# Altium schematic symbol library ISFFM.Schlib: 1 symbol
Pins are listed as number, name and electrical type; pins without a type are passive.

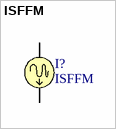
[diagram p0: symbol ISFFM]

## ISFFM
designator I?
Frequency-Modulated Sinusoidal Current Source
pins: 1, 2